# EAGLE library part ADS8866 (library ICs)
ADS8866 16-bit, 100-kSPS, serial interface, micropower, miniature, single-endedinput, SAR ADC
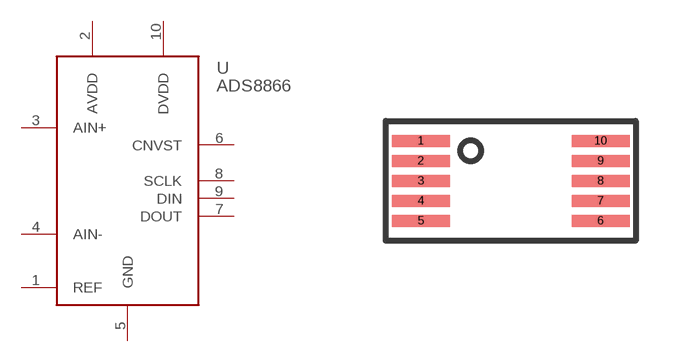
[diagram p285: symbol with the pads of VSSOP10; footprint VSSOP10]

Designator prefix U

## ADS8866IDGSR (DIGIKEY: 296-39885-1-ND; HEIGHT: 1; PRICE_PER: 3.91; VALUE: ADS8866)  [VSSOP10]
1  REF
2  AVDD
3  AIN+
4  AIN-
5  GND
6  CNVST
7  DOUT
8  SCLK
9  DIN
10  DVDD

## Footprint VSSOP10 (pad centres in mm)
smd 1.45 x 0.3: 1 -2.25,1; 2 -2.25,0.5; 3 -2.25,0; 4 -2.25,-0.5; 5 -2.25,-1; 6 2.25,-1; 7 2.25,-0.5; 8 2.25,0; 9 2.25,0.5; 10 2.25,1